# Altium footprint library Chip.PcbLib: 37 footprints (part 3 of 3)
Each footprint in its own frame and in the unit in brackets; x right, y up, seen from the top. Pads: shape width x height; smd on the part's side, far side on the other; paste and mask are expansions set on the pad; w line width, h text height; cw(c..) or ccw(c..) is an arc to the next point about the centre after c.
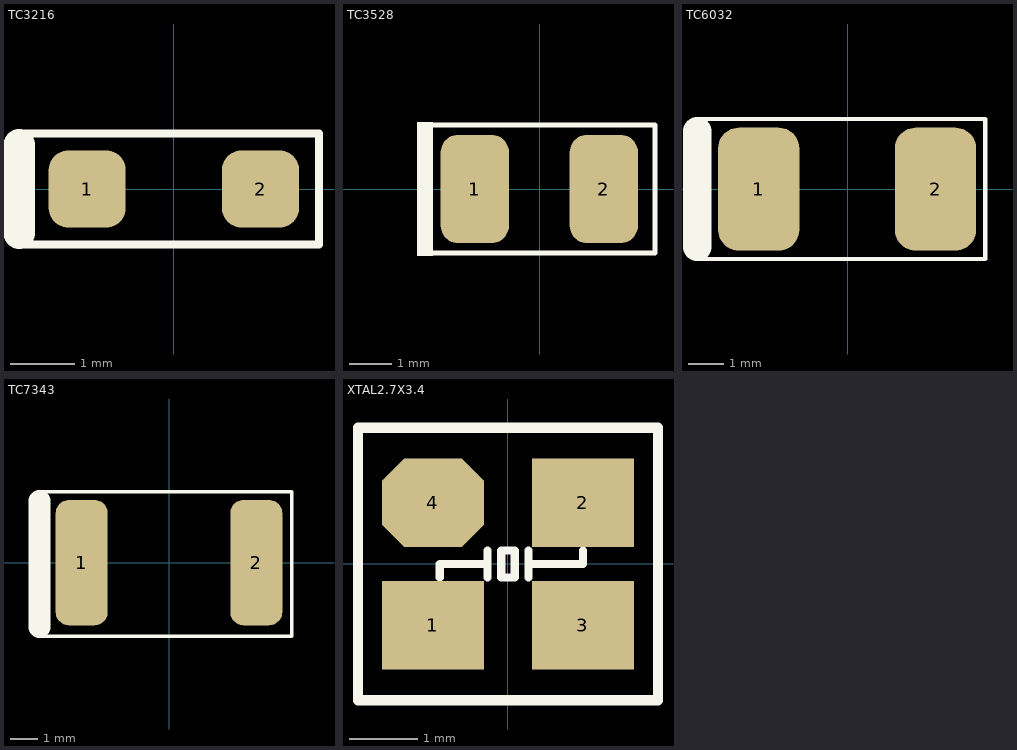
[diagram p2: the footprints below, top view; thin cyan lines are the x and y axes]

## TC3216 [mm] "SM Tantalum Capacitor; Body 3.2 x 1.6 mm (LxW typ)"
height 2.2
pads (2):
  rrect50% 1.2x1.2 smd: 1(-1.35,0) 2(1.35,0)
Top Overlay:
  lines w0.127: -2.413,-0.864 2.261,-0.864 2.261,0.864 -2.413,0.864
  lines w0.5: -2.413,-0.686 -2.413,0.686

## TC3528 [mm] "Capacitor, SM Tantalum; Body 3.5 x 2.8 mm (LxW typ)"
height 2.5
pads (2):
  rrect50% 1.6x2.54 smd: 1(-1.524,0) 2(1.5,0)
Top Overlay:
  region: -2.5,-1.575 -2.5,1.575 -2.875,1.575 -2.875,-1.575
  lines w0.127: -2.516,1.5 2.7,1.5 2.7,-1.5 -2.5,-1.5

## TC6032 [mil] "Capacitor, SM Tantalum; Body 6.0 x 3.2 mm (LxW typ)"
height 133.86
pads (2):
  rrect50% 91x138 smd: 1(-100,0) 2(98.43,0)
Top Overlay:
  lines w5: -169.29,-78.4 154.49,-78.4 154.49,78.74 -169.29,78.74
  lines w31.5: -169,-65 -169,65

## TC7343 [mm] "Capacitor, SM Tantalum; Body 7.3 x 4.3 mm (LxW typ) D Case"
height 2.9
pads (2):
  rrect50% 1.905x4.597 smd: 1(-3.2,0) 2(3.2,0)
Top Overlay:
  lines w0.127: -4.7,-2.7 4.5,-2.7 4.5,2.6 -4.7,2.6
  lines w0.8: -4.748,-2.362 -4.748,2.261

## XTAL2.7X3.4 [mm]
height 1.35
pads (4):
  rect 1.5x1.3 smd: 1(-1.1,-0.9) 2(1.1,0.9) 3(1.1,-0.9)
  oct 1.5x1.3 smd: 4(-1.1,0.9)
Top Overlay:
  lines w0.12: -1,-0.2 -1,-0.1 -1,0 -0.3,0 ; -0.3,-0.2 -0.3,0.2 ; 0.3,-0.2 0.3,0.2 ; 0.3,0 1.1,0 1.1,0.2 ; -0.1,-0.2 0.1,-0.2 0.1,0.2 -0.1,0.2 -0.1,-0.2
  lines w0.15: -2.2,-2 -2.2,2 -1.7,2 1.7,2 2.2,2 2.2,-2 1.7,-2 -1.7,-2 -2.2,-2